# EAGLE library part CONNECTOR_USB-R (library GPIO Split Protector with Console)
USB connector, 2 shield pins
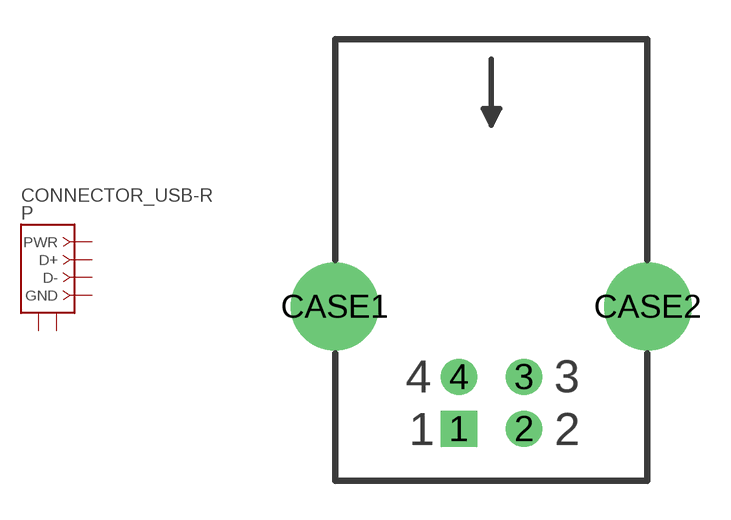
[diagram p1: symbol with the pads of CONNECTOR_USBBF-1; footprint CONNECTOR_USBBF-1]

Designator prefix P

## CONNECTOR_USB-RA (DESC: USB B socket; SUPPLIER: Jameco: 230958; VALSTAT: label)  [CONNECTOR_USBBF-1]
1  PWR  pwr
2  D-
3  D+
4  GND  pwr
CASE1  SHIELD1
CASE2  SHIELD2

## Footprint CONNECTOR_USBBF-1 (pad centres in mm)
USB type B female, PC mount, right angle Jameco 230957
drill 0.889 pad 1.321 square: 1 -1.25,-4.71
drill 0.889 pad 1.321: 2 1.25,-4.71; 3 1.25,-2.71; 4 -1.25,-2.71
drill 2.362 pad 3.175: CASE1 -6.02,0; CASE2 6.02,0